# Altium footprint library QFN-20_UFD_LIT.PcbLib: 1 footprints
Each footprint in its own frame and in the unit in brackets; x right, y up, seen from the top. Pads: shape width x height; smd on the part's side, far side on the other; paste and mask are expansions set on the pad; w line width, h text height; cw(c..) or ccw(c..) is an arc to the next point about the centre after c.
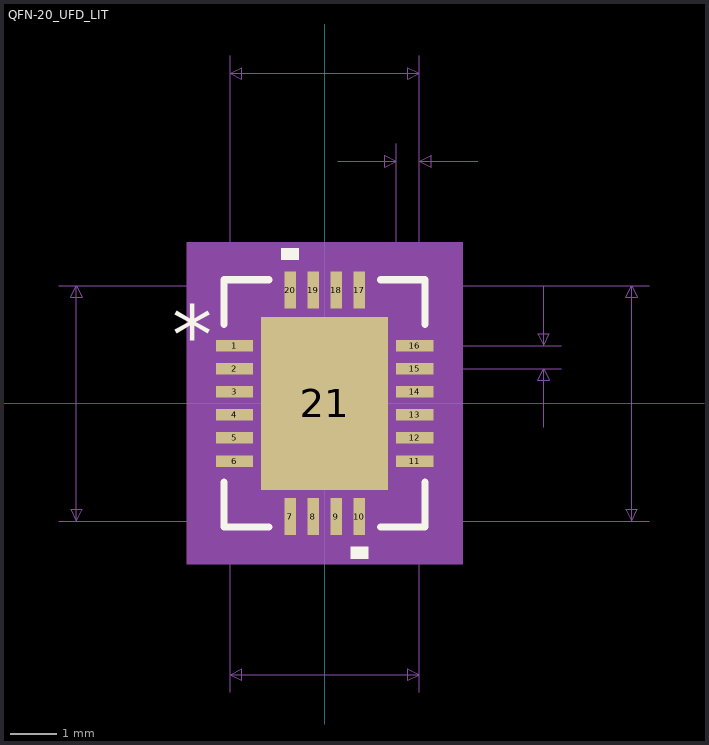
[diagram p0: the footprint, top view; thin cyan lines are the x and y axes]

## QFN-20_UFD_LIT [mm]
pads (21):
  rect 0.805x0.249 smd paste+0 mask+0: 1(-1.952,1.25) 2(-1.952,0.75) 3(-1.952,0.25) 4(-1.952,-0.25) 5(-1.952,-0.75) 6(-1.952,-1.25) 11(1.952,-1.25) 12(1.952,-0.75) 13(1.952,-0.25) 14(1.952,0.25) 15(1.952,0.75) 16(1.952,1.25)
  rect 0.249x0.805 smd paste+0 mask+0: 7(-0.75,-2.452) 8(-0.25,-2.452) 9(0.25,-2.452) 10(0.75,-2.452) 17(0.75,2.452) 18(0.25,2.452) 19(-0.25,2.452) 20(-0.75,2.452)
  rect 2.75x3.75 smd paste-1.862 mask+0: 21(0,0)
Top Overlay:
  region: 0.941,-3.109 0.56,-3.109 0.56,-3.363 0.941,-3.363
  region: -0.56,3.109 -0.941,3.109 -0.941,3.363 -0.56,3.363
  lines w0.152: -2.177,-1.707 -2.177,-2.677 -1.207,-2.677 ; -2.177,1.707 -2.177,2.677 -1.207,2.677 ; 1.207,-2.677 2.177,-2.677 2.177,-1.707 ; 1.207,2.677 2.177,2.677 2.177,1.707
  text "*" at -3.307,0.865 h1.27
Top Paste:
  region: -0.1,1.775 -1.275,1.775 -1.275,0.1 -0.1,0.1
  region: -0.1,-0.1 -1.275,-0.1 -1.275,-1.775 -0.1,-1.775
  region: 1.275,1.775 0.1,1.775 0.1,0.1 1.275,0.1
  region: 1.275,-0.1 0.1,-0.1 0.1,-1.775 1.275,-1.775
Mechanical 5:
  region: 2.99,-3.49 -2.99,-3.49 -2.99,3.49 2.99,3.49
Mechanical 7:
  lines w0.025: -5.758,-2.55 2.05,-2.55 ; -5.758,2.55 2.05,2.55 2.05,-6.258 ; -2.05,-6.258 -2.05,2.55 ; -2.05,1.25 -2.05,7.528 ; 0.28,5.242 1.55,5.242 ; 0.75,-2.55 7.028,-2.55 ; 0.75,2.55 7.028,2.55 ; 1.55,1.25 1.55,5.623 ; 1.952,0.75 5.123,0.75 ; 1.952,1.25 5.123,1.25 ; 2.05,5.623 2.05,1.25 2.05,7.528 ; 3.32,5.242 2.05,5.242 ; 4.742,-0.52 4.742,0.75 ; 4.742,2.52 4.742,1.25 ; -5.377,-2.55 -5.377,2.55 ; -5.377,-2.55 -5.504,-2.296 -5.25,-2.296 -5.377,-2.55 ; -5.377,2.55 -5.504,2.296 -5.25,2.296 -5.377,2.55 ; -2.05,-5.877 2.05,-5.877 ; -2.05,-5.877 -1.796,-5.75 -1.796,-6.004 -2.05,-5.877 ; -2.05,7.147 2.05,7.147 ; -2.05,7.147 -1.796,7.274 -1.796,7.02 -2.05,7.147 ; 1.55,5.242 1.296,5.369 1.296,5.115 1.55,5.242 ; 2.05,-5.877 1.796,-5.75 1.796,-6.004 2.05,-5.877 ; 2.05,5.242 2.304,5.369 2.304,5.115 2.05,5.242 ; 2.05,7.147 1.796,7.274 1.796,7.02 2.05,7.147 ; 4.742,0.75 4.615,0.496 4.869,0.496 4.742,0.75 ; 4.742,1.25 4.615,1.504 4.869,1.504 4.742,1.25 ; 6.647,-2.55 6.647,2.55 ; 6.647,-2.55 6.52,-2.296 6.774,-2.296 6.647,-2.55 ; 6.647,2.55 6.52,2.296 6.774,2.296 6.647,2.55
  text "Default Padstyle: RX9p81Y31p69D0T" at -10.477,-10.729 h1.27
  text "Heat Tab Padstyle: RX108p27Y147p64D0T" at -11.747,-12.253 h1.27
  text "Alt 1 Padstyle: OX60Y90D30P" at -8.572,-15.301 h1.27
  text "Alt 2 Padstyle: OX90Y60D30P" at -8.572,-16.825 h1.27
  text "0.02in/0.5mm" at 5.25,0.683 h0.64
  text "0.02in/0.5mm" at -0.105,5.75 h0.64
  text "0.161in/4.1mm" at -2.064,7.655 h0.64
  text "0.201in/5.1mm" at 7.155,-0.318 h0.64
  text "0.201in/5.1mm" at -10.013,-0.318 h0.64
  text "0.161in/4.1mm" at -2.064,-7.02 h0.64
Mechanical 13:
  lines w0.025: -2.05,1.28 -0.78,2.55 ; -2.05,-2.55 2.05,-2.55 2.05,2.55 -2.05,2.55 -2.05,-2.55 ; -2.05,-1.4 -2.05,-1.1 -2.05,-1.4 ; -2.05,-0.9 -2.05,-0.6 -2.05,-0.9 ; -2.05,-0.4 -2.05,-0.1 -2.05,-0.4 ; -2.05,0.1 -2.05,0.4 -2.05,0.1 ; -2.05,0.6 -2.05,0.9 -2.05,0.6 ; -2.05,1.1 -2.05,1.4 -2.05,1.1 ; -0.9,-2.55 -0.6,-2.55 -0.9,-2.55 ; -0.9,2.55 -0.6,2.55 -0.9,2.55 ; -0.4,-2.55 -0.1,-2.55 -0.4,-2.55 ; -0.4,2.55 -0.1,2.55 -0.4,2.55 ; 0.1,-2.55 0.4,-2.55 0.1,-2.55 ; 0.1,2.55 0.4,2.55 0.1,2.55 ; 0.6,-2.55 0.9,-2.55 0.6,-2.55 ; 0.6,2.55 0.9,2.55 0.6,2.55 ; 2.05,-1.4 2.05,-1.1 2.05,-1.4 ; 2.05,-0.9 2.05,-0.6 2.05,-0.9 ; 2.05,-0.4 2.05,-0.1 2.05,-0.4 ; 2.05,0.1 2.05,0.4 2.05,0.1 ; 2.05,0.6 2.05,0.9 2.05,0.6 ; 2.05,1.1 2.05,1.4 2.05,1.1
  text "*" at -1.867,0.865 h1.27
Mechanical 15:
  region: -1.129,-2.804 -2.304,-2.804 -2.304,-1.629 -2.609,-1.629 -2.609,1.629 -2.304,1.629 -2.304,2.804 -1.129,2.804 -1.129,3.109 1.129,3.109 1.129,2.804 2.304,2.804 2.304,1.629 2.609,1.629 2.609,-1.629 2.304,-1.629 2.304,-2.804 1.129,-2.804 1.129,-3.109 -1.129,-3.109
  lines w0.152: -2.609,-1.629 -2.304,-1.629 -2.304,-2.804 -1.129,-2.804 -1.129,-3.109 1.129,-3.109 1.129,-2.804 2.304,-2.804 2.304,-1.629 2.609,-1.629 2.609,1.629 2.304,1.629 2.304,2.804 1.129,2.804 1.129,3.109 -1.129,3.109 -1.129,2.804 -2.304,2.804 -2.304,1.629 -2.609,1.629 -2.609,-1.629
3D body: height 0.25, standoff 0, extent 0,0 0.254,0.254